# EAGLE library part UM6 (library custom)
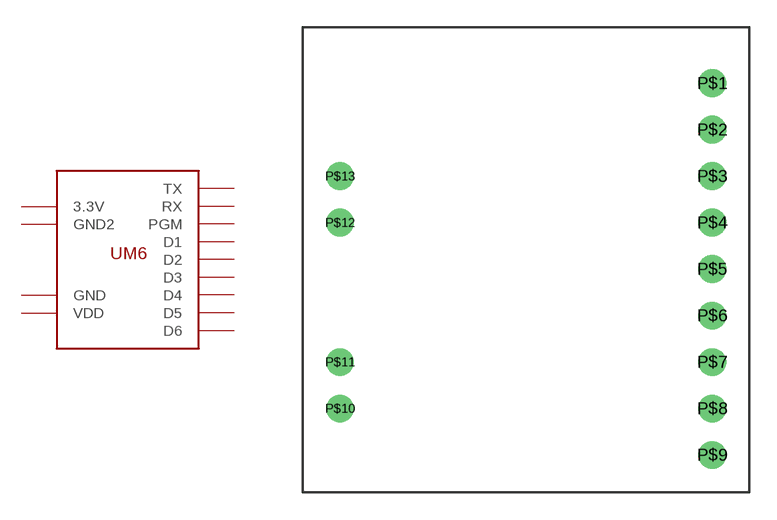
[diagram p17: symbol with the pads of UM6; footprint UM6]

Designator prefix -

## UM6  [UM6]
P$1  TX
P$2  RX
P$3  PGM
P$4  D1
P$5  D2
P$6  D3
P$7  D4
P$8  D5
P$9  D6
P$10  VDD
P$11  GND
P$12  GND2
P$13  3.3V

## Footprint UM6 (pad centres in mm)
drill 1: P$1 9.652,9.652; P$2 9.652,7.112; P$3 9.652,4.572; P$4 9.652,2.032; P$5 9.652,-0.508; P$6 9.652,-3.048; P$7 9.652,-5.588; P$8 9.652,-8.128; P$9 9.652,-10.668; P$10 -10.668,-8.128; P$11 -10.668,-5.588; P$12 -10.668,2.032; P$13 -10.668,4.572